# Altium schematic symbol library TPS62140ARGTR.Schlib: 1 symbol
Pins are listed as number, name and electrical type; pins without a type are passive.

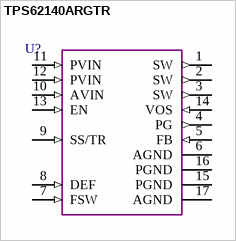
[diagram p0: symbol TPS62140ARGTR]

## TPS62140ARGTR
designator U?  (value not drawn)
pins: 1 SW (out), 2 SW (out), 3 SW (out), 4 PG (out), 5 FB (in), 6 AGND, 7 FSW (in), 8 DEF (in), 9 SS/TR (in), 10 AVIN (in), 11 PVIN (in), 12 PVIN (in), 13 EN (in), 14 VOS (in), 15 PGND (power), 16 PGND (power), 17 AGND (power)